# Altium footprint library Capacitor_THT.PcbLib: 378 footprints (part 5 of 24)
Each footprint in its own frame and in the unit in brackets; x right, y up, seen from the top. Pads: shape width x height; smd on the part's side, far side on the other; paste and mask are expansions set on the pad; w line width, h text height; cw(c..) or ccw(c..) is an arc to the next point about the centre after c.
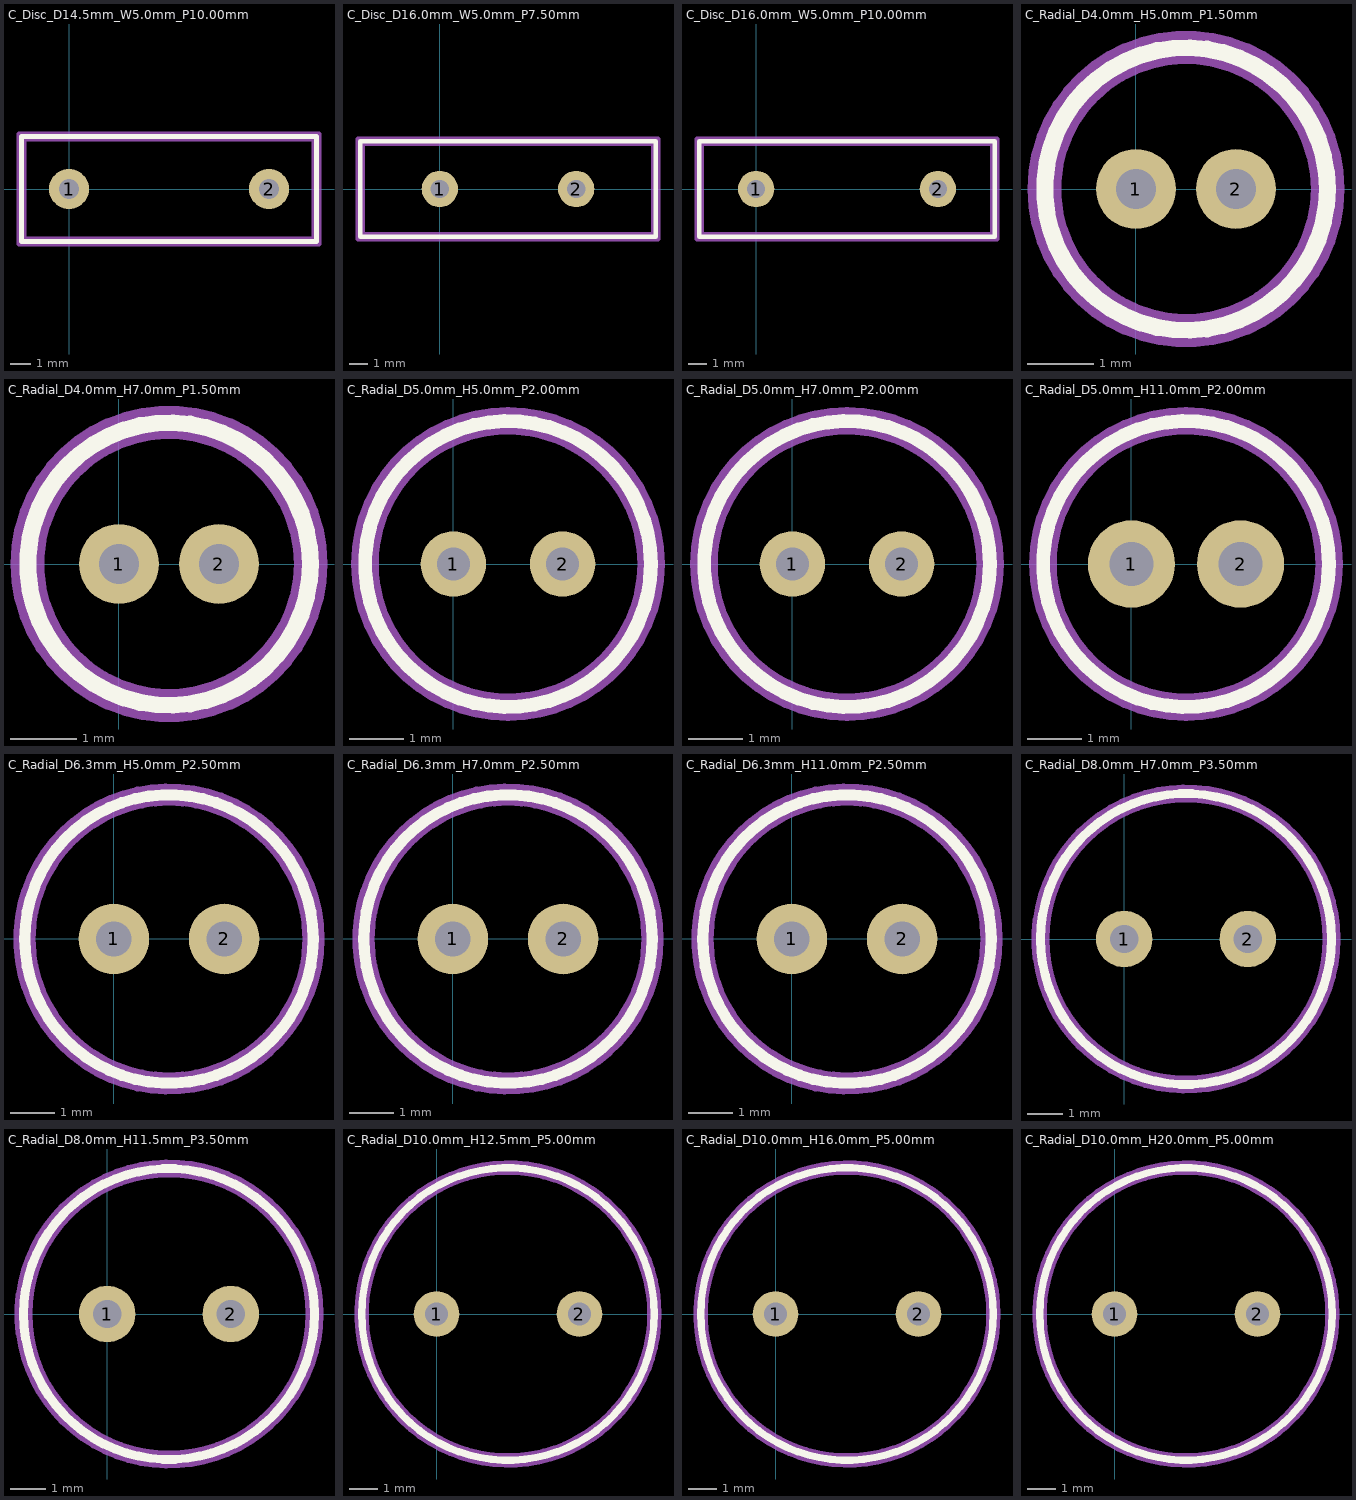
[diagram p4: the footprints below, top view; thin cyan lines are the x and y axes]

## C_Disc_D14.5mm_W5.0mm_P10.00mm [mm] "C_Disc_D14.5mm_W5.0mm_P10.00mm"
pads (2):
  round 2 hole 1: 1(0,0) 2(10,0)
F.SilkS:
  lines w0.254: -2.37,-2.62 12.37,-2.62 12.37,2.62 -2.37,2.62 -2.37,-2.62
Top Component Center:
  lines w0.127: -0.127,0 0.127,0 ; 0,-0.127 0,0.127
Top Assembly:
  lines w0.254: -2.25,-2.5 12.25,-2.5 12.25,2.5 -2.25,2.5 -2.25,-2.5
Top Courtyard:
  lines w0.254: -2.5,-2.75 12.5,-2.75 12.5,2.75 -2.5,2.75 -2.5,-2.75
Top Designator:
  text ".Designator" at 1.566,-0.345 h1.52
3D body "C_Disc_D14.5mm_W5.0mm_P10.00mm.step": height 14.6, standoff -2, extent -2.25,-2.5 12.239,2.5

## C_Disc_D16.0mm_W5.0mm_P7.50mm [mm] "C_Disc_D16.0mm_W5.0mm_P7.50mm"
pads (2):
  round 2 hole 1: 1(0,0) 2(7.5,0)
F.SilkS:
  lines w0.254: -4.37,-2.62 11.87,-2.62 11.87,2.62 -4.37,2.62 -4.37,-2.62
Top Component Center:
  lines w0.127: -0.127,0 0.127,0 ; 0,-0.127 0,0.127
Top Assembly:
  lines w0.254: -4.25,-2.5 11.75,-2.5 11.75,2.5 -4.25,2.5 -4.25,-2.5
Top Courtyard:
  lines w0.254: -4.5,-2.75 12,-2.75 12,2.75 -4.5,2.75 -4.5,-2.75
Top Designator:
  text ".Designator" at 0.757,-0.472 h1.52
3D body "C_Disc_D16.0mm_W5.0mm_P7.50mm.step": height 16.1, standoff -2, extent -4.25,-2.5 11.742,2.5

## C_Disc_D16.0mm_W5.0mm_P10.00mm [mm] "C_Disc_D16.0mm_W5.0mm_P10.00mm"
pads (2):
  round 2 hole 1: 1(0,0) 2(10,0)
F.SilkS:
  lines w0.254: -3.12,-2.62 13.12,-2.62 13.12,2.62 -3.12,2.62 -3.12,-2.62
Top Component Center:
  lines w0.127: -0.127,0 0.127,0 ; 0,-0.127 0,0.127
Top Assembly:
  lines w0.254: -3,-2.5 13,-2.5 13,2.5 -3,2.5 -3,-2.5
Top Courtyard:
  lines w0.254: -3.25,-2.75 13.25,-2.75 13.25,2.75 -3.25,2.75 -3.25,-2.75
Top Designator:
  text ".Designator" at 1.646,-0.345 h1.52
3D body "C_Disc_D16.0mm_W5.0mm_P10.00mm.step": height 16.1, standoff -2, extent -3,-2.5 12.991,2.5

## C_Radial_D4.0mm_H5.0mm_P1.50mm [mm] "C_Radial_D4.0mm_H5.0mm_P1.50mm"
pads (2):
  round 1.2 hole 0.6: 1(0,0) 2(1.5,0)
F.SilkS:
  circle w0.254: c0.75,0 r2.12
Top Component Center:
  lines w0.127: -0.127,0 0.127,0 ; 0,-0.127 0,0.127
Top Assembly:
  circle w0.254: c0.75,0 r2
Top Courtyard:
  circle w0.254: c0.75,0 r2.25
Top Designator:
  text ".Designator" at -1.49,-1.242 h1
3D body "C_Radial_D4.0mm_H5.0mm_P1.50mm.step": height 5, standoff -2, extent -1.24,-1.997 2.75,1.997

## C_Radial_D4.0mm_H7.0mm_P1.50mm [mm] "C_Radial_D4.0mm_H7.0mm_P1.50mm"
pads (2):
  round 1.2 hole 0.6: 1(0,0) 2(1.5,0)
F.SilkS:
  circle w0.254: c0.75,0 r2.12
Top Component Center:
  lines w0.127: -0.127,0 0.127,0 ; 0,-0.127 0,0.127
Top Assembly:
  circle w0.254: c0.75,0 r2
Top Courtyard:
  circle w0.254: c0.75,0 r2.25
Top Designator:
  text ".Designator" at -1.49,-1.242 h1
3D body "C_Radial_D4.0mm_H7.0mm_P1.50mm.step": height 7, standoff -2, extent -1.75,-2.5 3.25,2.5

## C_Radial_D5.0mm_H5.0mm_P2.00mm [mm] "C_Radial_D5.0mm_H5.0mm_P2.00mm"
pads (2):
  round 1.2 hole 0.6: 1(0,0) 2(2,0)
F.SilkS:
  circle w0.254: c1,0 r2.62
Top Component Center:
  lines w0.127: -0.127,0 0.127,0 ; 0,-0.127 0,0.127
Top Assembly:
  circle w0.254: c1,0 r2.5
Top Courtyard:
  circle w0.254: c1,0 r2.75
Top Designator:
  text ".Designator" at -1.363,-1.496 h1
3D body "C_Radial_D5.0mm_H5.0mm_P2.00mm.step": height 5, standoff -2, extent -1.5,-2.5 3.5,2.5

## C_Radial_D5.0mm_H7.0mm_P2.00mm [mm] "C_Radial_D5.0mm_H7.0mm_P2.00mm"
pads (2):
  round 1.2 hole 0.6: 1(0,0) 2(2,0)
F.SilkS:
  circle w0.254: c1,0 r2.62
Top Component Center:
  lines w0.127: -0.127,0 0.127,0 ; 0,-0.127 0,0.127
Top Assembly:
  circle w0.254: c1,0 r2.5
Top Courtyard:
  circle w0.254: c1,0 r2.75
Top Designator:
  text ".Designator" at -1.236,-1.242 h1
3D body "C_Radial_D5.0mm_H7.0mm_P2.00mm.step": height 7, standoff -2, extent -1.5,-2.5 3.5,2.5

## C_Radial_D5.0mm_H11.0mm_P2.00mm [mm] "C_Radial_D5.0mm_H11.0mm_P2.00mm"
pads (2):
  round 1.6 hole 0.8: 1(0,0) 2(2,0)
F.SilkS:
  circle w0.254: c1,0 r2.62
Top Component Center:
  lines w0.127: -0.127,0 0.127,0 ; 0,-0.127 0,0.127
Top Assembly:
  circle w0.254: c1,0 r2.5
Top Courtyard:
  circle w0.254: c1,0 r2.75
Top Designator:
  text ".Designator" at -1.236,-1.623 h1
3D body "C_Radial_D5.0mm_H11.0mm_P2.00mm.step": height 11, standoff -2, extent -1.5,-2.5 3.5,2.5

## C_Radial_D6.3mm_H5.0mm_P2.50mm [mm] "C_Radial_D6.3mm_H5.0mm_P2.50mm"
pads (2):
  round 1.6 hole 0.8: 1(0,0) 2(2.5,0)
F.SilkS:
  circle w0.254: c1.25,0 r3.27
Top Component Center:
  lines w0.127: -0.127,0 0.127,0 ; 0,-0.127 0,0.127
Top Assembly:
  circle w0.254: c1.25,0 r3.15
Top Courtyard:
  circle w0.254: c1.25,0 r3.4
Top Designator:
  text ".Designator" at 1.615,-3.307 h1.52
3D body "C_Radial_D6.3mm_H5.0mm_P2.50mm.step": height 5, standoff -2, extent -1.9,-3.15 4.4,3.15

## C_Radial_D6.3mm_H7.0mm_P2.50mm [mm] "C_Radial_D6.3mm_H7.0mm_P2.50mm"
pads (2):
  round 1.6 hole 0.8: 1(0,0) 2(2.5,0)
F.SilkS:
  circle w0.254: c1.25,0 r3.27
Top Component Center:
  lines w0.127: -0.127,0 0.127,0 ; 0,-0.127 0,0.127
Top Assembly:
  circle w0.254: c1.25,0 r3.15
Top Courtyard:
  circle w0.254: c1.25,0 r3.4
Top Designator:
  text ".Designator" at 1.445,-3.434 h1.52
3D body "C_Radial_D6.3mm_H7.0mm_P2.50mm.step": height 7, standoff -2, extent -1.9,-3.15 4.4,3.15

## C_Radial_D6.3mm_H11.0mm_P2.50mm [mm] "C_Radial_D6.3mm_H11.0mm_P2.50mm"
pads (2):
  round 1.6 hole 0.8: 1(0,0) 2(2.5,0)
F.SilkS:
  circle w0.254: c1.25,0 r3.27
Top Component Center:
  lines w0.127: -0.127,0 0.127,0 ; 0,-0.127 0,0.127
Top Assembly:
  circle w0.254: c1.25,0 r3.15
Top Courtyard:
  circle w0.254: c1.25,0 r3.4
Top Designator:
  text ".Designator" at 1.369,-2.252 h1
3D body "C_Radial_D6.3mm_H11.0mm_P2.50mm.step": height 11, standoff -2, extent -1.9,-3.15 4.4,3.15

## C_Radial_D8.0mm_H7.0mm_P3.50mm [mm] "C_Radial_D8.0mm_H7.0mm_P3.50mm"
pads (2):
  round 1.6 hole 0.8: 1(0,0) 2(3.5,0)
F.SilkS:
  circle w0.254: c1.75,0 r4.12
Top Component Center:
  lines w0.127: -0.127,0 0.127,0 ; 0,-0.127 0,0.127
Top Assembly:
  circle w0.254: c1.75,0 r4
Top Courtyard:
  circle w0.254: c1.75,0 r4.25
Top Designator:
  text ".Designator" at 2.095,-3.434 h1.52
3D body "C_Radial_D8.0mm_H7.0mm_P3.50mm.step": height 7, standoff -2, extent -2.25,-4 5.75,4

## C_Radial_D8.0mm_H11.5mm_P3.50mm [mm] "C_Radial_D8.0mm_H11.5mm_P3.50mm"
pads (2):
  round 1.6 hole 0.8: 1(0,0) 2(3.5,0)
F.SilkS:
  circle w0.254: c1.75,0 r4.12
Top Component Center:
  lines w0.127: -0.127,0 0.127,0 ; 0,-0.127 0,0.127
Top Assembly:
  circle w0.254: c1.75,0 r4
Top Courtyard:
  circle w0.254: c1.75,0 r4.25
Top Designator:
  text ".Designator" at 2.095,-3.434 h1.52
3D body "C_Radial_D8.0mm_H11.5mm_P3.50mm.step": height 11, standoff -2, extent -2.25,-4 5.75,4

## C_Radial_D10.0mm_H12.5mm_P5.00mm [mm] "C_Radial_D10.0mm_H12.5mm_P5.00mm"
pads (2):
  round 1.6 hole 0.8: 1(0,0) 2(5,0)
F.SilkS:
  circle w0.254: c2.5,0 r5.12
Top Component Center:
  lines w0.127: -0.127,0 0.127,0 ; 0,-0.127 0,0.127
Top Assembly:
  circle w0.254: c2.5,0 r5
Top Courtyard:
  circle w0.254: c2.5,0 r5.25
Top Designator:
  text ".Designator" at 2.758,-3.561 h1.52
3D body "C_Radial_D10.0mm_H12.5mm_P5.00mm.step": height 12.5, standoff -2, extent -2.5,-4.998 7.5,4.999

## C_Radial_D10.0mm_H16.0mm_P5.00mm [mm] "C_Radial_D10.0mm_H16.0mm_P5.00mm"
pads (2):
  round 1.6 hole 0.8: 1(0,0) 2(5,0)
F.SilkS:
  circle w0.254: c2.5,0 r5.12
Top Component Center:
  lines w0.127: -0.127,0 0.127,0 ; 0,-0.127 0,0.127
Top Assembly:
  circle w0.254: c2.5,0 r5
Top Courtyard:
  circle w0.254: c2.5,0 r5.25
Top Designator:
  text ".Designator" at 2.845,-3.434 h1.52
3D body "C_Radial_D10.0mm_H16.0mm_P5.00mm.step": height 16, standoff -2, extent -2.5,-4.998 7.5,4.999

## C_Radial_D10.0mm_H20.0mm_P5.00mm [mm] "C_Radial_D10.0mm_H20.0mm_P5.00mm"
pads (2):
  round 1.6 hole 0.8: 1(0,0) 2(5,0)
F.SilkS:
  circle w0.254: c2.5,0 r5.12
Top Component Center:
  lines w0.127: -0.127,0 0.127,0 ; 0,-0.127 0,0.127
Top Assembly:
  circle w0.254: c2.5,0 r5
Top Courtyard:
  circle w0.254: c2.5,0 r5.25
Top Designator:
  text ".Designator" at 2.845,-3.434 h1.52
3D body "C_Radial_D10.0mm_H20.0mm_P5.00mm.step": height 20, standoff -2, extent -2.5,-4.998 7.5,4.999